# Altium footprint library RX_BA_v4.PcbLib: 23 footprints (part 2 of 2)
Each footprint in its own frame and in the unit in brackets; x right, y up, seen from the top. Pads: shape width x height; smd on the part's side, far side on the other; paste and mask are expansions set on the pad; w line width, h text height; cw(c..) or ccw(c..) is an arc to the next point about the centre after c.
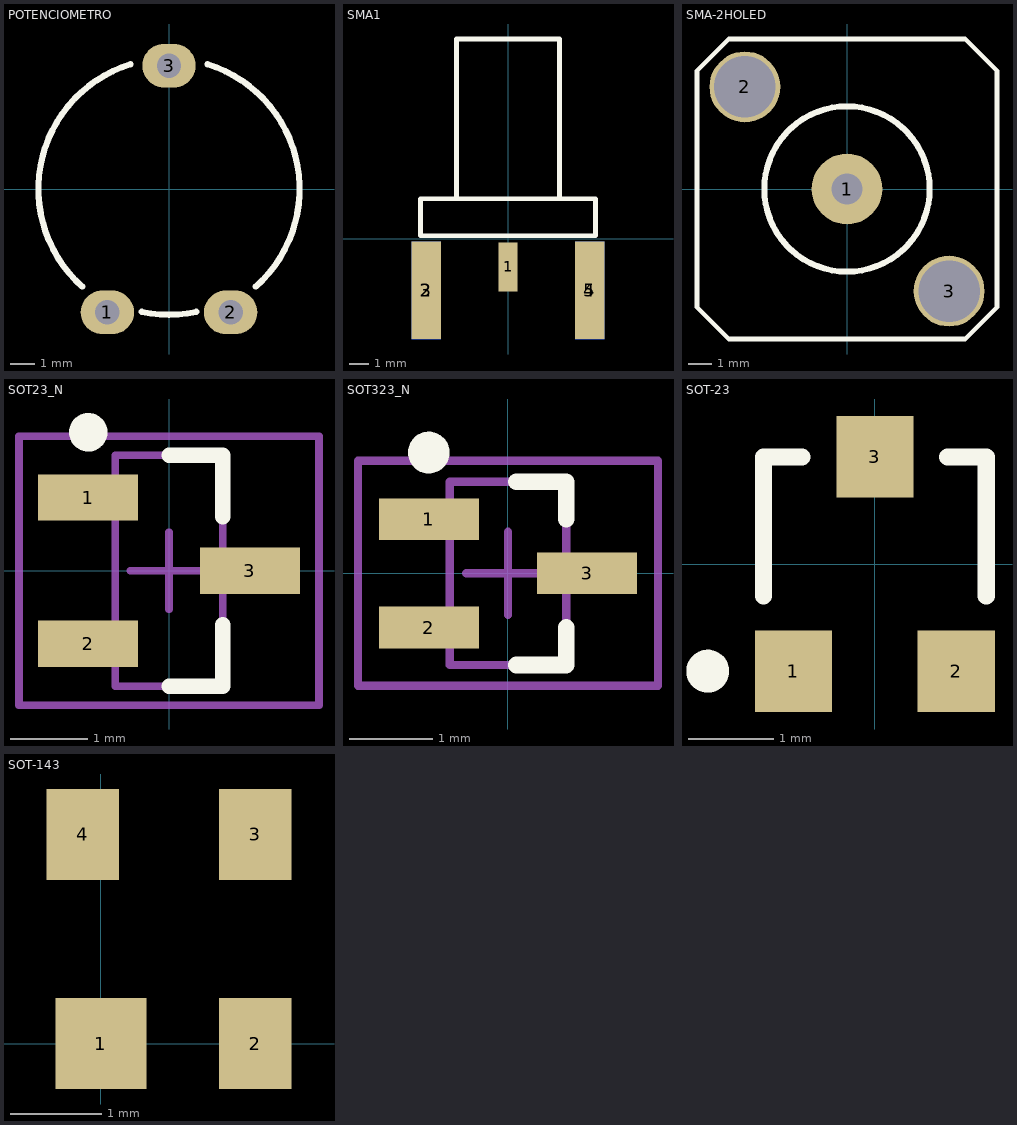
[diagram p1: the footprints below, top view; thin cyan lines are the x and y axes]

## POTENCIOMETRO [mm]
height 6
pads (3):
  oval 2.2x1.8 hole 1: 1(-2.54,-5.08) 2(2.54,-5.08) 3(0,5.08)
Top Overlay:
  lines w0.254: -3.574,-4.021 cw(c0,0) -1.59,5.139 ; -1.125,-5.061 ccw(c-0.003,0.001) 1.125,-5.059 ; 1.59,5.139 cw(c0,0) 3.574,-4.021

## SMA1 [mm]
pads (5):
  rect 1x2.5 smd: 1(0,-1.45)
  rect 1.5x5 smd: 2(-4.2,-2.65) 4(4.2,-2.65)
  rect 1.5x5 smd far side: 3(-4.2,-2.65) 5(4.2,-2.65)
Top Overlay:
  lines w0.254: -2.65,2.05 -2.65,10.25 2.65,10.25 2.65,2.05 ; -4.5,0.15 -4.5,2.05 4.5,2.05 4.5,0.15 -4.5,0.15
3D body: height 4.5, standoff -3.5, extent -4.5,-5.131 4.5,9.779

## SMA-2HOLED [mm]
pads (3):
  round 3 hole 1.3: 1(0,0)
  round 3 hole 2.6: 2(-4.32,4.32) 3(4.32,-4.32)
Top Overlay:
  circle w0.254: c0,0 r3.5
  lines w0.2: -6.35,-5 -5,-6.35 5,-6.35 6.35,-5 6.35,5 5,6.35 -5,6.35 -6.35,5 -6.35,-5
3D body: height 9.58, standoff -4.9, extent -6.35,-6.35 6.35,6.35
3D body: height 0.25, standoff -5.3, extent -0.645,-0.649 0.65,0.649

## SOT23_N [mm] "SOT23, 3-Leads, Body 2.9x1.3mm, Pitch 0.95mm, Lead Span 2.3mm, IPC Medium Density"
height 1.1
pads (3):
  rect 1.3x0.6 smd: 1(-1.05,0.95) 2(-1.05,-0.95) 3(1.05,0)
Top Overlay:
  circle w0.25: c-1.05,1.8 r0.125
  lines w0.2: 0,-1.5 0.7,-1.5 0.7,-0.7 ; 0,1.5 0.7,1.5 0.7,0.7
Mechanical 13:
  lines w0.1: -0.7,-1.5 0.7,-1.5 0.7,1.5 -0.7,1.5 -0.7,-1.5
Mechanical 15:
  lines w0.1: -0.5,0 0.5,0 ; 0,-0.5 0,0.5 ; -1.95,-1.75 1.95,-1.75 1.95,1.75 -1.95,1.75 -1.95,-1.75
3D body: height 1.1, standoff 0, extent -0.7,-1.5 0.7,1.5

## SOT323_N [mm] "SOT323, 3-Leads, Body 2.0x1.3mm, Pitch 0.65mm, Lead Span 2.1mm, IPC Medium Density"
height 1.1
pads (3):
  rect 1.2x0.5 smd: 1(-0.95,0.65) 2(-0.95,-0.65) 3(0.95,0)
Top Overlay:
  circle w0.25: c-0.95,1.45 r0.125
  lines w0.2: 0.1,-1.1 0.7,-1.1 0.7,-0.65 ; 0.1,1.1 0.7,1.1 0.7,0.65
Mechanical 13:
  lines w0.1: -0.7,-1.1 0.7,-1.1 0.7,1.1 -0.7,1.1 -0.7,-1.1
Mechanical 15:
  lines w0.1: -0.5,0 0.5,0 ; 0,-0.5 0,0.5 ; -1.8,-1.35 1.8,-1.35 1.8,1.35 -1.8,1.35 -1.8,-1.35
3D body: height 1.1, standoff 0, extent -0.7,-1.1 0.7,1.1

## SOT-23 [mm] "SOT-23; 3 Leads; Body 3.0 x 2.6 mm, inc. leads (LxW max)"
height 1.1
pads (3):
  rect 0.9x0.95 smd: 1(-0.95,-1.25) 2(0.95,-1.25) 3(0,1.25)
Top Overlay:
  circle w0.25: c-1.95,-1.25 r0.125
  lines w0.2: -1.3,-0.375 -1.3,1.25 -0.85,1.25 ; 0.85,1.25 1.3,1.25 1.3,-0.375
3D body: height 1.1, standoff 0, extent -1.5,-1.569 1.5,1.569

## SOT-143 [mm]
pads (4):
  rect 1x1 smd: 1(0,0)
  rect 0.8x1 smd: 2(1.7,0) 3(1.7,2.3) 4(-0.2,2.3)
3D body: height 1.1, standoff 0, extent -0.736,-0.143 2.264,2.357